# EAGLE library part MA10-2 (library con-lstb)
PIN HEADER
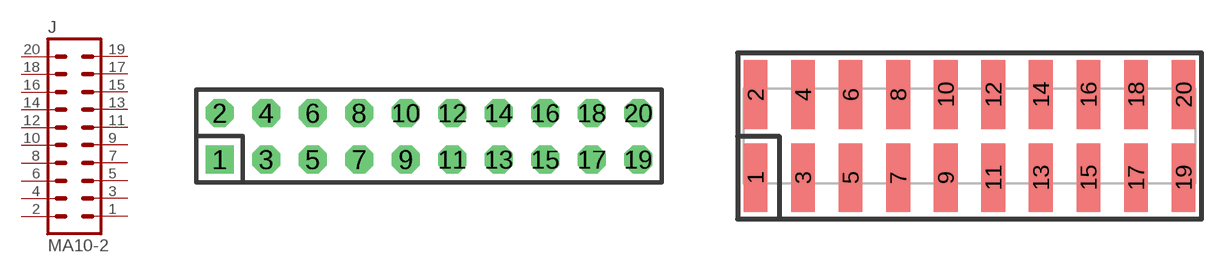
[diagram p3: symbol with the pads of MA10-2; footprints MA10-2, SMD-MA10-2]

Designator prefix J

## MA10-2  [MA10-2]
1  1  pas
2  2  pas
3  3  pas
4  4  pas
5  5  pas
6  6  pas
7  7  pas
8  8  pas
9  9  pas
10  10  pas
11  11  pas
12  12  pas
13  13  pas
14  14  pas
15  15  pas
16  16  pas
17  17  pas
18  18  pas
19  19  pas
20  20  pas

## MA10-2SMD  [SMD-MA10-2]
Pads as for MA10-2

## Footprint MA10-2 (pad centres in mm)
PIN HEADER
drill 1.016 square: 1 -11.43,-1.27
drill 1.016 octagon: 2 -11.43,1.27; 3 -8.89,-1.27; 4 -8.89,1.27; 5 -6.35,-1.27; 6 -6.35,1.27; 7 -3.81,-1.27; 8 -3.81,1.27; 9 -1.27,-1.27; 10 -1.27,1.27; 11 1.27,-1.27; 12 1.27,1.27; 13 3.81,-1.27; 14 3.81,1.27; 15 6.35,-1.27; 16 6.35,1.27; 17 8.89,-1.27; 18 8.89,1.27; 19 11.43,-1.27; 20 11.43,1.27

## Footprint SMD-MA10-2 (pad centres in mm)
SMD Dual Row, Vertical - 0.1" Sullins, G XCXXDABN-M30 Series
smd 1.27 x 3.68: 1 -11.43,-2.223; 2 -11.43,2.223; 3 -8.89,-2.223; 4 -8.89,2.223; 5 -6.35,-2.223; 6 -6.35,2.223; 7 -3.81,-2.223; 8 -3.81,2.223; 9 -1.27,-2.223; 10 -1.27,2.223; 11 1.27,-2.223; 12 1.27,2.223; 13 3.81,-2.223; 14 3.81,2.223; 15 6.35,-2.223; 16 6.35,2.223; 17 8.89,-2.223; 18 8.89,2.223; 19 11.43,-2.223; 20 11.43,2.223